# EAGLE library part G792 (library dec-m)
Power Supply Connector
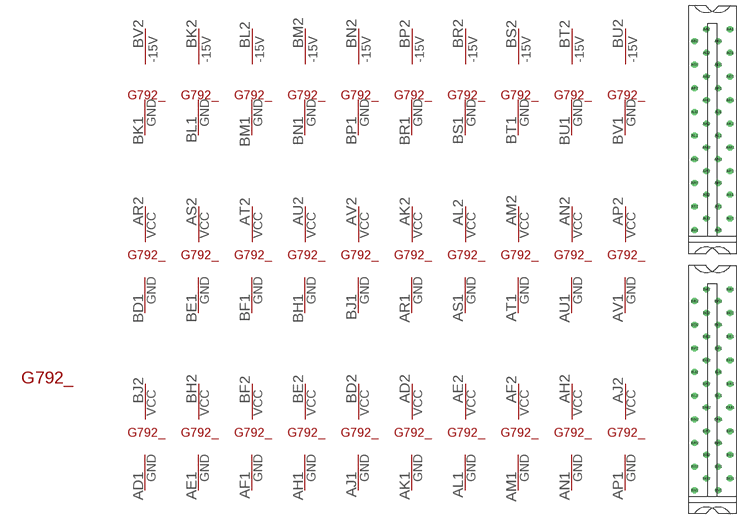
[diagram p91: symbol with the pads of H807-2; footprint H807-2]

Designator prefix G792_; gates G$1=-15V G$2=POWER G$3=PART G$4=POWER G$5=POWER G$6=POWER G$7=POWER G$8=POWER G$9=POWER G$10=POWER G$11=POWER G$12=POWER G$13=POWER G$14=POWER G$15=POWER G$16=POWER G$17=POWER G$18=POWER G$19=POWER G$20=POWER G$21=POWER G$22=POWER G$23=T1GND G$24=T1GND G$25=T1GND G$26=T1GND G$27=T1GND G$28=T1GND G$29=T1GND G$30=T1GND G$31=T1GND G$32=T1GND G$33=-15V G$34=-15V G$35=-15V G$36=-15V G$37=-15V G$38=-15V G$39=-15V G$40=-15V G$41=-15V

## G792  [H807-2]
AD1  G$2:GND  pwr
AD2  G$8:VCC  pwr
AE1  G$4:GND  pwr
AE2  G$9:VCC  pwr
AF1  G$5:GND  pwr
AF2  G$10:VCC  pwr
AH1  G$6:GND  pwr
AH2  G$11:VCC  pwr
AJ1  G$7:GND  pwr
AJ2  G$12:VCC  pwr
AK1  G$8:GND  pwr
AK2  G$13:VCC  pwr
AL1  G$9:GND  pwr
AL2  G$14:VCC  pwr
AM1  G$10:GND  pwr
AM2  G$15:VCC  pwr
AN1  G$11:GND  pwr
AN2  G$16:VCC  pwr
AP1  G$12:GND  pwr
AP2  G$17:VCC  pwr
AR1  G$13:GND  pwr
AR2  G$18:VCC  pwr
AS1  G$14:GND  pwr
AS2  G$19:VCC  pwr
AT1  G$15:GND  pwr
AT2  G$20:VCC  pwr
AU1  G$16:GND  pwr
AU2  G$21:VCC  pwr
AV1  G$17:GND  pwr
AV2  G$22:VCC  pwr
BD1  G$18:GND  pwr
BD2  G$7:VCC  pwr
BE1  G$19:GND  pwr
BE2  G$6:VCC  pwr
BF1  G$20:GND  pwr
BF2  G$5:VCC  pwr
BH1  G$21:GND  pwr
BH2  G$4:VCC  pwr
BJ1  G$22:GND  pwr
BJ2  G$2:VCC  pwr
BK1  G$23:GND  pwr
BK2  G$33:-15V  pwr
BL1  G$24:GND  pwr
BL2  G$34:-15V  pwr
BM1  G$25:GND  pwr
BM2  G$35:-15V  pwr
BN1  G$26:GND  pwr
BN2  G$36:-15V  pwr
BP1  G$27:GND  pwr
BP2  G$37:-15V  pwr
BR1  G$28:GND  pwr
BR2  G$38:-15V  pwr
BS1  G$29:GND  pwr
BS2  G$39:-15V  pwr
BT1  G$30:GND  pwr
BT2  G$40:-15V  pwr
BU1  G$31:GND  pwr
BU2  G$41:-15V  pwr
BV1  G$32:GND  pwr
BV2  G$1:-15V  pwr

## Footprint H807-2 (pad centres in mm)
Two-wide Female Edge Connector
drill 1.092 octagon: AA1 4.763,60.325; AA2 -1.587,60.325; AB1 1.587,57.15; AB2 -4.763,57.15; AC1 4.763,53.975; AC2 -1.587,53.975; AD1 1.587,50.8; AD2 -4.763,50.8; AE1 4.763,47.625; AE2 -1.587,47.625; AF1 1.587,44.45; AF2 -4.763,44.45; AH1 4.763,41.275; AH2 -1.587,41.275; AJ1 1.587,38.1; AJ2 -4.763,38.1; AK1 4.763,34.925; AK2 -1.587,34.925; AL1 1.587,31.75; AL2 -4.763,31.75; AM1 4.763,28.575; AM2 -1.587,28.575; AN1 1.587,25.4; AN2 -4.763,25.4; AP1 4.763,22.225; AP2 -1.587,22.225; AR1 1.587,19.05; AR2 -4.763,19.05; AS1 4.763,15.875; AS2 -1.587,15.875; AT1 1.587,12.7; AT2 -4.763,12.7; AU1 4.763,9.525; AU2 -1.587,9.525; AV1 1.587,6.35; AV2 -4.763,6.35; BA1 4.763,-9.525; BA2 -1.587,-9.525; BB1 1.587,-12.7; BB2 -4.763,-12.7; BC1 4.763,-15.875; BC2 -1.587,-15.875; BD1 1.587,-19.05; BD2 -4.763,-19.05; BE1 4.763,-22.225; BE2 -1.587,-22.225; BF1 1.587,-25.4; BF2 -4.763,-25.4; BH1 4.763,-28.575; BH2 -1.587,-28.575; BJ1 1.587,-31.75; BJ2 -4.763,-31.75; BK1 4.763,-34.925; BK2 -1.587,-34.925; BL1 1.587,-38.1; BL2 -4.763,-38.1; BM1 4.763,-41.275; BM2 -1.587,-41.275; BN1 1.587,-44.45; BN2 -4.763,-44.45; BP1 4.763,-47.625; BP2 -1.587,-47.625; BR1 1.587,-50.8; BR2 -4.763,-50.8; BS1 4.763,-53.975; BS2 -1.587,-53.975; BT1 1.587,-57.15; BT2 -4.763,-57.15; BU1 4.763,-60.325; BU2 -1.587,-60.325; BV1 1.587,-63.5; BV2 -4.763,-63.5